# EAGLE library part LM339 (library BME_Components)
Low Power Low Offset Voltage Quad Comparator, 14-pin MDIP, Pb-Free
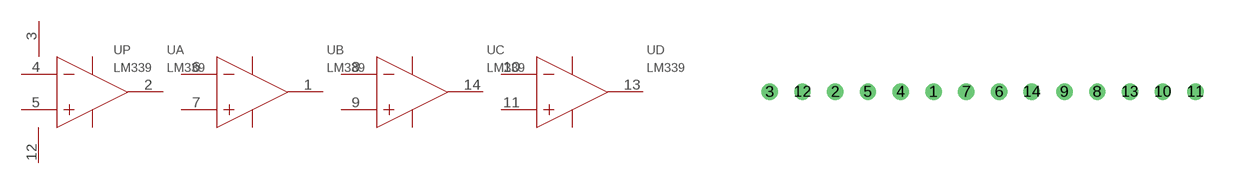
[diagram p25: symbol with the pads of LM339_PDIP-14; footprint LM339_PDIP-14]

Designator prefix U; gates P=LM339_P A=LM339_A B=LM339_B C=LM339_C D=LM339_D

## LM339LM339_LM339_PDIP-14 (CODE_JEDEC: MS-001-AA; COMPONENTLINK1DESCRIPTION: LM339 Datasheet; COMPONENTLINK1URL: http://www.national.com/ds/LM/LM339.pdf; COMPONENTLINK2DESCRIPTION: LM339 Web Page; COMPONENTLINK2URL: http://www.national.com/pf/LM/LM339.html; COMPONENTLINK3DESCRIPTION: N14A Package Page; COMPONENTLINK3URL: http://www.national.com/packaging/folders/n14a.html; COMPTYPE: Amplifiers; DATASHEETVERSION: Mar-2004; MANUFACTURER: National Semiconductor; PACKAGEDESCRIPTION: MDIP, .750 x .250 x.130in, 14 Lead, .100in Pitch; PACKAGEREFERENCE: N14A; PACKAGETOPMARKING: NSUZXYYTTE#*LM339AN; PACKAGEVERSION: revG, May-2006; PARTID: 1; PINCOUNT: 14; POWERWISE: N; REVISIONNOTE: Component URLs added; ROHS: Y)  [LM339_PDIP-14]
1  B:OUT2  out
2  A:OUT1  out
3  P:V+  pwr
4  A:IN1-  in
5  A:IN1+  in
6  B:IN2-  in
7  B:IN2+  in
8  C:IN3-  in
9  C:IN3+  in
10  D:IN4-  in
11  D:IN4+  in
12  P:GND  pwr
13  D:OUT4  out
14  C:OUT3  out

## Footprint LM339_PDIP-14 (pad centres in mm)
drill 0.127 pad 0.254 round: 1 6.35,0; 2 2.54,0; 3 0,0; 4 5.08,0; 5 3.81,0; 6 8.89,0; 7 7.62,0; 8 12.7,0; 9 11.43,0; 10 15.24,0; 11 16.51,0; 12 1.27,0; 13 13.97,0; 14 10.16,0